# Altium footprint library SparkFun-Connectors.PCBLIB: 43 footprints (part 3 of 3)
Each footprint in its own frame and in the unit in brackets; x right, y up, seen from the top. Pads: shape width x height; smd on the part's side, far side on the other; paste and mask are expansions set on the pad; w line width, h text height; cw(c..) or ccw(c..) is an arc to the next point about the centre after c.
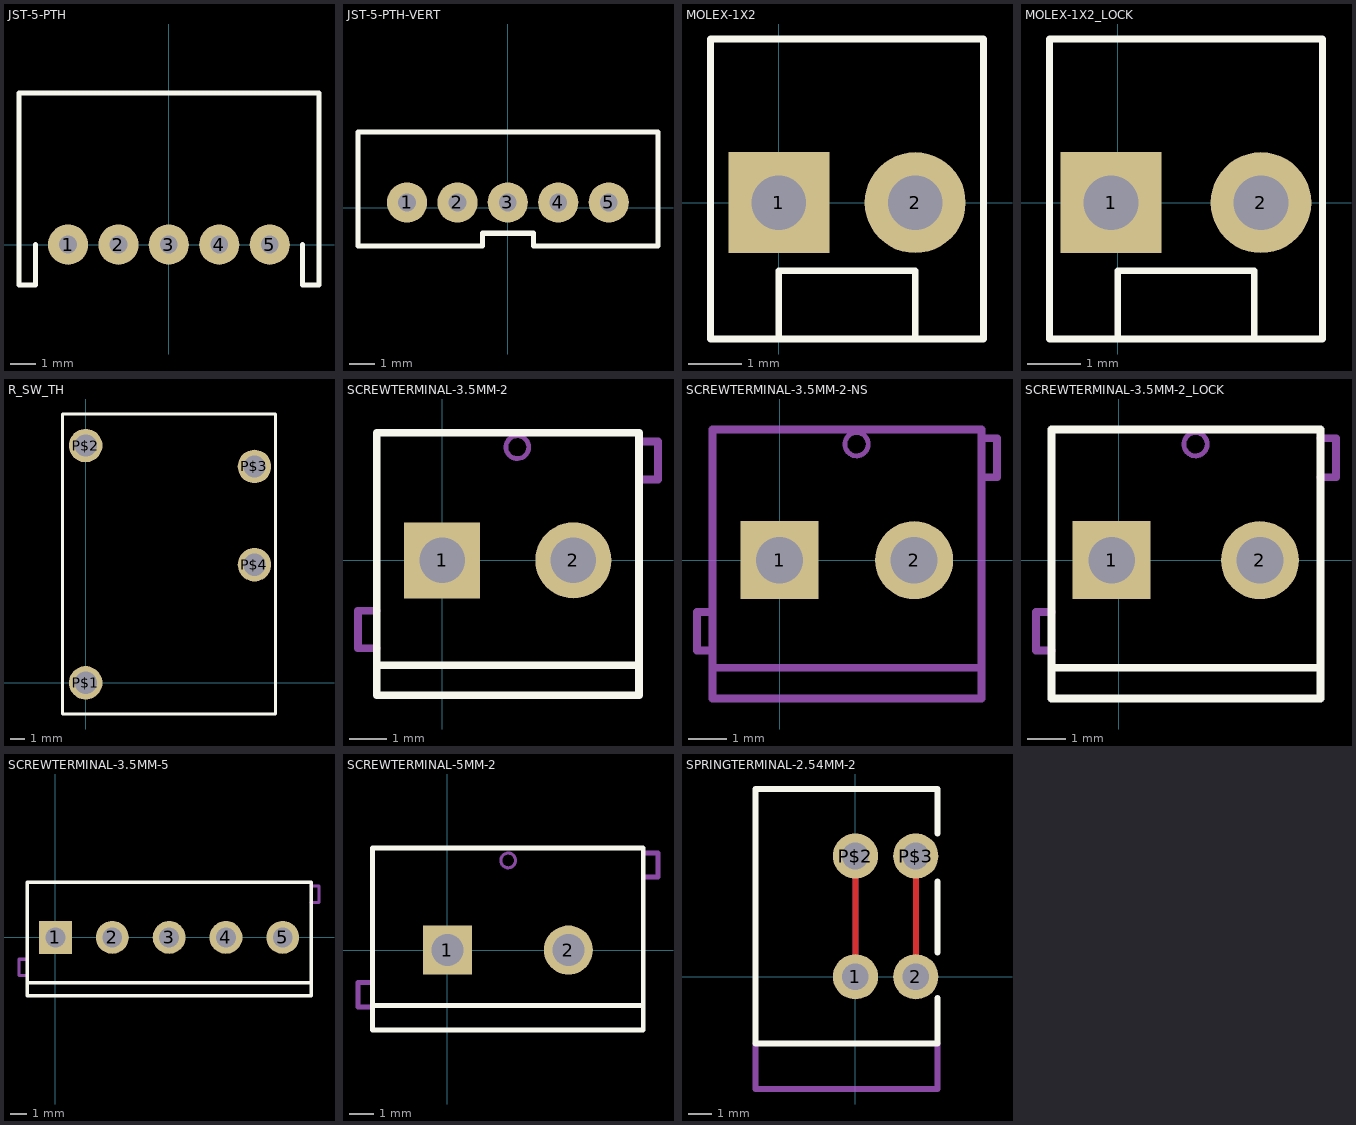
[diagram p2: the footprints below, top view; thin cyan lines are the x and y axes]

## JST-5-PTH [mil]
pads (5):
  round 63 hole 28: 1(-157.48,0) 2(-78.74,0) 3(0,0) 4(79,0) 5(158,0)
Top Overlay:
  lines w8: -208.66,0 -208.66,-62.99 -234.25,-62.99 -234.25,237 235,237 235,-62.99 209,-62.99 209,0

## JST-5-PTH-VERT [mil]
pads (5):
  round 63 hole 28: 1(-157.48,8) 2(-78.74,8) 3(0,8) 4(79,8) 5(158,8)
Top Overlay:
  lines w8: -234.25,-59.84 -234.25,118 235,118 235,-59.84 40,-59.84 40,-40.16 -39.37,-40.16 -39.37,-59.84 -234.25,-59.84

## MOLEX-1X2 [mil]
pads (2):
  rect 74x74 hole 40: 1(0,0)
  round 74 hole 40: 2(100,0)
Top Overlay:
  lines w5: 0,-100 100,-100 ; 0,-100 -50,-100 -50,120 150,120 150,-100 100,-100 ; 0,-100 0,-50 100,-50 100,-100

## MOLEX-1X2_LOCK [mil]
pads (2):
  rect 74x74 hole 40: 1(-5,0)
  round 74 hole 40: 2(105,0)
Top Overlay:
  lines w5: 0,-100 100,-100 ; 0,-100 -50,-100 -50,120 150,120 150,-100 100,-100 ; 0,-100 0,-50 100,-50 100,-100
Mechanical 16:
  rectangle: -11.5,-11.5 12,12
  rectangle: 89,-11.5 112,12

## R_SW_TH [mil]
pads (4):
  round 94.5 hole 63: P$1(0,0) P$2(0,669) P$3(476,610) P$4(476,333)
Top Overlay:
  lines w8: -65,-88 -65,758 535,758 535,-88 -65,-88

## SCREWTERMINAL-3.5MM-2 [mil]
pads (2):
  rect 80x80 hole 48: 1(0,0)
  round 80 hole 48: 2(138,0)
Top Overlay:
  lines w8: -68.9,-110.24 -68.9,-141.73 207,-141.73 207,-110.24 ; -68.9,-110.24 -68.9,134 207,134 207,-110.24 ; -68.9,-110.24 207,-110.24
Mechanical 16:
  circle w5: c79,119 r12
  lines w8: -68.9,-92.52 -88.58,-92.52 -88.58,-53.15 -68.9,-53.15 ; 207,85 227,85 227,125 207,125

## SCREWTERMINAL-3.5MM-2-NS [mil]
pads (2):
  rect 80x80 hole 48: 1(0,0)
  round 80 hole 48: 2(138,0)
Mechanical 16:
  circle w5: c79,119 r12
  lines w8: -68.9,-110.24 -68.9,-141.73 207,-141.73 207,-110.24 ; -68.9,-110.24 -68.9,-92.52 ; -68.9,-110.24 207,-110.24 ; -68.9,-92.52 -68.9,-53.15 ; -68.9,-92.52 -84.65,-92.52 -84.65,-53.15 -68.9,-53.15 ; -68.9,-53.15 -68.9,134 207,134 207,125 ; 207,-110.24 207,85 ; 207,85 207,125 ; 207,85 223,85 223,125 207,125

## SCREWTERMINAL-3.5MM-2_LOCK [mil]
pads (2):
  rect 80x80 hole 48: 1(-7,0)
  round 80 hole 48: 2(145,0)
Top Overlay:
  lines w8: -68.9,-110.24 -68.9,-141.73 207,-141.73 207,-110.24 ; -68.9,-110.24 -68.9,134 207,134 207,-110.24 ; -68.9,-110.24 207,-110.24
Mechanical 16:
  circle w5: c79,119 r12
  circle w1: c0,0 r17
  circle w1: c138,0 r17
  lines w8: -68.9,-92.52 -84.65,-92.52 -84.65,-53.15 -68.9,-53.15 ; 207,85 223,85 223,125 207,125

## SCREWTERMINAL-3.5MM-5 [mil]
pads (5):
  rect 80x80 hole 48: 1(0,0)
  round 80 hole 48: 2(138,0) 3(276,0) 4(414,0) 5(552,0)
Top Overlay:
  lines w8: -68.9,-110.24 -68.9,-141.73 621,-141.73 621,-110.24 ; -68.9,-110.24 -68.9,134 621,134 621,-110.24 ; -68.9,-110.24 621,-110.24
Mechanical 16:
  lines w8: -68.9,-92.52 -88.58,-92.52 -88.58,-53.15 -68.9,-53.15 ; 621,85 640,85 640,125 621,125

## SCREWTERMINAL-5MM-2 [mil]
pads (2):
  rect 80x80 hole 52: 1(0,0)
  round 80 hole 52: 2(197,0)
Top Overlay:
  lines w8: -122.05,-90.55 -122.05,-129.92 319,-129.92 319,-90.55 ; -122.05,-90.55 -122.05,166 319,166 319,-90.55 ; -122.05,-90.55 319,-90.55
Mechanical 16:
  circle w5: c99,146 r12
  lines w8: -122.05,-92.52 -145.67,-92.52 -145.67,-53.15 -122.05,-53.15 ; 319,119 343,119 343,158 319,158

## SPRINGTERMINAL-2.54MM-2 [mil]
pads (4):
  round 75 hole 44: 1(0,0) 2(100,0) P$2(0,200) P$3(100,200)
Top Layer:
  lines w10: 0,0 0,200 ; 100,0 100,200
Bottom Layer:
  lines w10: 0,0 0,200 ; 100,0 100,200
Top Overlay:
  lines w10: 136,-35.43 136,-110.24 -165.35,-110.24 -165.35,311 136,311 136,237 ; 136,40 136,158
Mechanical 16:
  lines w10: -165.35,-110.24 -165.35,-185.83 136,-185.83 136,-110.24